# Altium footprint library gini_base_pcb.PCBLIB: 175 footprints (part 3 of 11)
Each footprint in its own frame and in the unit in brackets; x right, y up, seen from the top. Pads: shape width x height; smd on the part's side, far side on the other; paste and mask are expansions set on the pad; w line width, h text height; cw(c..) or ccw(c..) is an arc to the next point about the centre after c.
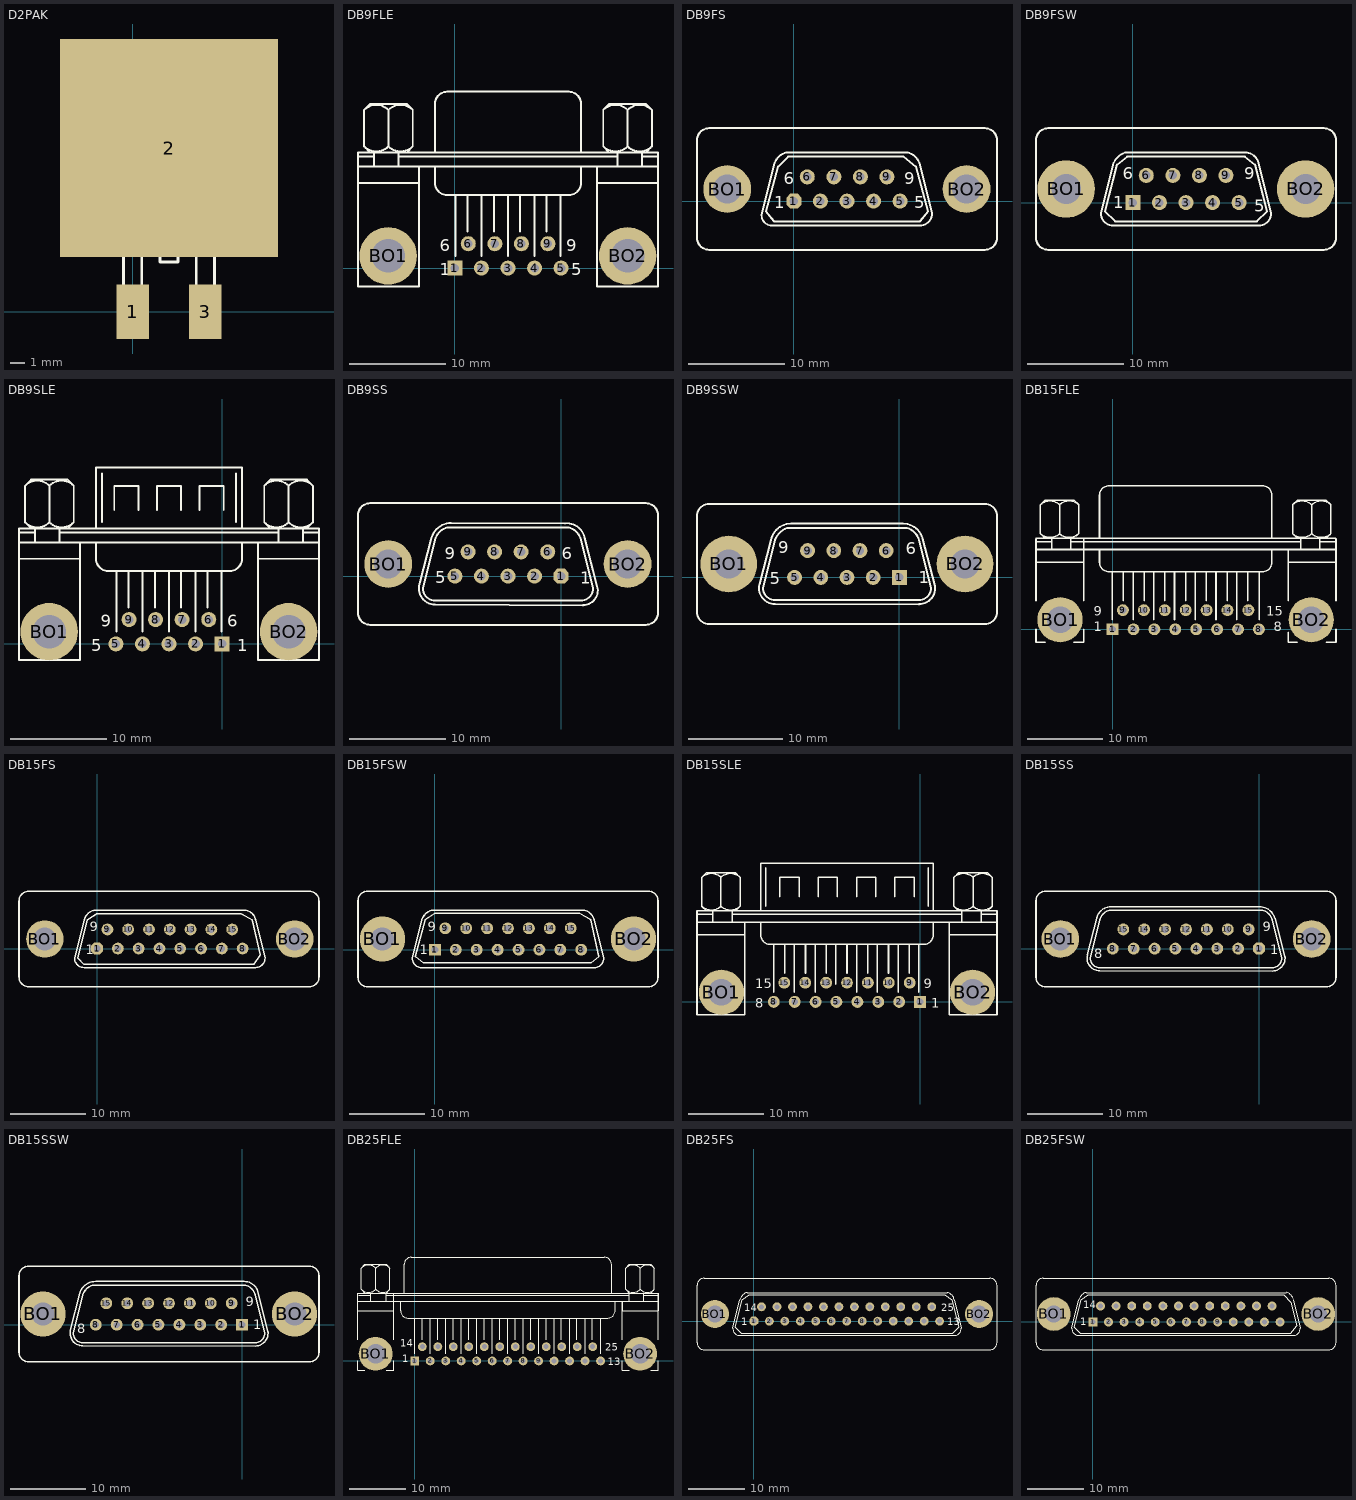
[diagram p2: the footprints below, top view; thin cyan lines are the x and y axes]

## D2PAK [mil]
pads (3):
  rect 90x150 smd: 1(0,0) 3(200,0)
  rect 600x600 smd: 2(100,450)
TopOverlay:
  lines w7.87: -25,207 -25,0 25,0 25,207 ; 75,207 75,137 125,137 125,207 ; 175,207 175,0 225,0 225,207 ; -108.33,207 -91.67,223.67 ; -108.33,207 -108.33,548.67 ; -108.33,207 308.33,207 ; -108.33,548.67 -91.67,532 ; -108.33,548.67 -108.33,598.67 -50,615.33 250,615.33 308.33,598.67 308.33,548.67 ; -108.33,548.67 308.33,548.67 ; -91.67,223.67 291.67,223.67 ; -91.67,223.67 -91.67,532 ; -91.67,532 291.67,532 ; 291.67,223.67 308.33,207 ; 291.67,223.67 291.67,532 ; 291.67,532 308.33,548.67 ; 308.33,207 308.33,548.67
  text "2" at 85,558 h50
  text "1" at -10.26,257.05 h50
  text "3" at 193.03,257.05 h50

## DB9FLE [mil]
pads (11):
  rect 62x62 hole 35: 1(0,0)
  round 62 hole 35: 2(109.17,0) 3(218.33,0) 4(327.5,0) 5(436.67,0) 6(55,100) 7(164.17,100) 8(273.33,100) 9(382.5,100)
  round 236.22 hole 137.8: BO1(-274.17,50) BO2(710,50)
TopOverlay:
  lines w8: -398.33,350 -148.33,350 ; -398.33,416.67 835,416.67 ; -398.33,458.33 -331.67,458.33 ; -373.42,499.91 ccw(c-323.33,550) -273.25,499.91 ; -373.42,650.09 cw(c-323.33,600) -273.25,650.09 ; -348.33,475 -373.33,500 -373.33,650 -348.33,675 -198.33,675 -173.33,650 -173.33,500 -198.33,475 ; -331.67,416.67 -331.67,475 ; -273.42,499.91 ccw(c-223.33,550) -173.25,499.91 ; -273.42,650.09 cw(c-223.33,600) -173.25,650.09 ; -273.33,500 -273.33,650 ; -231.67,416.67 -231.67,475 ; -231.67,458.33 668.33,458.33 ; -148.33,416.67 -148.33,-75 -398.33,-75 -398.33,475 835,475 835,-75 585,-75 585,416.67 ; -81.67,416.67 -81.67,350 ccw(c-31.67,350) -31.67,300 468.33,300 ccw(c468.33,350) 518.33,350 518.33,416.67 ; -81.67,475 -81.67,675 cw(c-31.67,675) -31.67,725 468.33,725 cw(c468.33,675) 518.33,675 518.33,475 ; 1.67,50 1.67,300 ; 51.67,150 51.67,300 ; 110,50 110,300 ; 160,150 160,300 ; 218.33,50 218.33,300 ; 268.33,150 268.33,300 ; 326.67,50 326.67,300 ; 376.67,150 376.67,300 ; 435,50 435,300 ; 585,350 835,350 ; 609.91,499.91 ccw(c660,550) 710.09,499.91 ; 609.91,650.09 cw(c660,600) 710.09,650.09 ; 635,475 610,500 610,650 635,675 785,675 810,650 810,500 785,475 ; 668.33,416.67 668.33,475 ; 709.91,499.91 ccw(c760,550) 810.09,499.91 ; 709.91,650.09 cw(c760,600) 810.09,650.09 ; 710,500 710,650 ; 768.33,416.67 768.33,475 ; 768.33,458.33 835,458.33
  text "6" at -61.67,70 h50
  text "1" at -61.67,-30 h50
  text "5" at 478.33,-30 h50
  text "9" at 458.33,70 h50

## DB9FS [mil]
pads (11):
  oct 62x62 hole 35: 1(0,0)
  round 62 hole 35: 2(109.17,0) 3(218.33,0) 4(327.5,0) 5(436.67,0) 6(55,100) 7(164.17,100) 8(273.33,100) 9(382.5,100)
  round 196.67 hole 118.33: BO1(-274.17,50) BO2(710,50)
TopOverlay:
  lines w8: -131.72,-50.22 ccw(c-90,-58.33) -81.89,-100.05 ; -131.67,-50 -81.67,150 ; -81.67,-100 518.33,-100 ccw(c518.33,-50) 568.33,-50 518.33,150 ; -81.3,149.86 cw(c-15,133.33) -31.53,199.64 ; -31.67,200 468.33,200 ; 468.2,199.64 cw(c451.67,133.33) 517.97,149.86 ; -398.33,-150 ccw(c-348.33,-150) -348.33,-200 785,-200 ccw(c785,-150) 835,-150 835,250 ccw(c785,250) 785,300 -348.33,300 ccw(c-348.33,250) -398.33,250 -398.33,-150 ; -115,-41.67 -65,141.67 -23.33,183.33 451.67,183.33 501.67,141.67 551.67,-41.67 518.33,-83.33 -81.67,-83.33 -115,-41.67
  text "1" at -81.67,-30 h50
  text "5" at 494.63,-29.7 h50
  text "6" at -41.67,70 h50
  text "9" at 454.03,70.2 h50

## DB9FSW [mil]
pads (11):
  rect 62x62 hole 35: 1(0,0)
  round 62 hole 35: 2(109.17,0) 3(218.33,0) 4(327.5,0) 5(436.67,0) 6(55,111.67) 7(164.17,111.67) 8(273.33,111.67) 9(382.5,111.67)
  round 236.22 hole 122.05: BO1(-274.17,55.83) BO2(710,55.83)
TopOverlay:
  lines w8: -398.33,255.83 cw(c-348.33,255.83) -348.33,305.83 785,305.83 cw(c785,255.83) 835,255.83 835,-144.17 cw(c785,-144.17) 785,-194.17 -348.33,-194.17 cw(c-348.33,-144.17) -398.33,-144.17 -398.33,264.17 ; -81.67,155.83 -131.67,-44.17 ccw(c-81.67,-44.17) -81.67,-94.17 518.33,-94.17 ccw(c518.33,-44.17) 568.33,-44.17 518.33,155.83 ; -78.99,163.03 cw(c-6.67,130.83) -31.13,206.12 ; -31.67,205.83 468.33,205.83 ; 468.23,206.09 cw(c460,147.5) 518.59,155.73 ; -115,-35.83 -73.33,-77.5 510,-77.5 551.67,-35.83 501.67,155.83 460,189.17 -23.33,189.17 -65,155.83 -115,-35.83
  text "9" at 458.33,95.83 h50
  text "5" at 499.33,-37.97 h50
  text "1" at -81.67,-24.17 h50
  text "6" at -41.67,95.83 h50

## DB9SLE [mil]
pads (11):
  rect 62x62 hole 35: 1(0,0)
  round 62 hole 35: 2(-109.17,0) 3(-218.33,0) 4(-327.5,0) 5(-436.67,0) 6(-55,100) 7(-164.17,100) 8(-273.33,100) 9(-382.5,100)
  round 236.22 hole 137.8: BO1(-710.83,50) BO2(273.33,50)
TopOverlay:
  lines w8: -835,350 -585,350 ; -835,416.67 398.33,416.67 ; -835,458.33 -768.33,458.33 ; -810.09,499.91 ccw(c-760,550) -709.91,499.91 ; -810.09,650.09 cw(c-760,600) -709.91,650.09 ; -785,475 -810,500 -810,650 -785,675 -635,675 -610,650 -610,500 -635,475 ; -768.33,416.67 -768.33,475 ; -710.09,499.91 ccw(c-660,550) -609.91,499.91 ; -710.09,650.09 cw(c-660,600) -609.91,650.09 ; -710,500 -710,650 ; -668.33,416.67 -668.33,475 ; -668.33,458.33 231.67,458.33 ; -585,416.67 -585,-66.67 -835,-66.67 -835,475 398.33,475 398.33,-66.67 148.33,-66.67 148.33,416.67 ; -518.33,416.67 -518.33,350 ccw(c-468.33,350) -468.33,300 31.67,300 ccw(c31.67,350) 81.67,350 81.67,416.67 ; -518.33,475 -518.33,725 81.67,725 81.67,475 ; -493.33,500 -493.33,700 ; -443.33,550 -443.33,650 -343.33,650 -343.33,550 ; -435,50 -435,300 ; -385,150 -385,300 ; -326.67,50 -326.67,300 ; -276.67,150 -276.67,300 ; -268.33,550 -268.33,650 -168.33,650 -168.33,550 ; -218.33,50 -218.33,300 ; -168.33,150 -168.33,300 ; -110,50 -110,300 ; -93.33,550 -93.33,650 6.67,650 6.67,550 ; -60,150 -60,300 ; -1.67,50 -1.67,300 ; 56.67,500 56.67,700 ; 148.33,350 398.33,350 ; 173.25,499.91 ccw(c223.33,550) 273.42,499.91 ; 173.25,650.09 cw(c223.33,600) 273.42,650.09 ; 198.33,475 173.33,500 173.33,650 198.33,675 348.33,675 373.33,650 373.33,500 348.33,475 ; 231.67,416.67 231.67,475 ; 273.25,499.91 ccw(c323.33,550) 373.42,499.91 ; 273.25,650.09 cw(c323.33,600) 373.42,650.09 ; 273.33,500 273.33,650 ; 331.67,416.67 331.67,475 ; 331.67,458.33 398.33,458.33
  text "1" at 61.67,-30 h50
  text "6" at 21.67,70 h50
  text "5" at -538.33,-30 h50
  text "9" at -498.33,70 h50

## DB9SS [mil]
pads (11):
  oct 62x62 hole 35: 1(0,0)
  round 62 hole 35: 2(-109.17,0) 3(-218.33,0) 4(-327.5,0) 5(-436.67,0) 6(-55,100) 7(-164.17,100) 8(-273.33,100) 9(-382.5,100)
  round 196.67 hole 118.33: BO1(-710.83,50) BO2(273.33,50)
TopOverlay:
  lines w8: -580,-23.33 -535,150 ; -579.7,-23.95 ccw(c-518.33,-50) -518.33,-116.67 90,-120 ; -535.1,149.55 cw(c-451.67,133.33) -451.67,218.33 15,216.67 ; -518.33,150 -568.33,-50 ccw(c-518.33,-50) -518.33,-100 81.67,-100 ccw(c81.67,-50) 131.67,-50 81.67,150 ; -517.97,149.86 cw(c-451.67,133.33) -468.2,199.64 ; -468.33,200 31.67,200 ; 15.41,217.08 cw(c23.33,141.67) 97.22,158.72 ; 31.53,199.64 cw(c15,133.33) 81.3,149.86 ; 90,-119.17 ccw(c90,-58.33) 148.48,-41.57 ; 96.67,158.33 148.33,-41.67 ; -835,-150 ccw(c-785,-150) -785,-200 348.33,-200 ccw(c348.33,-150) 398.33,-150 398.33,250 ccw(c348.33,250) 348.33,300 -785,300 ccw(c-785,250) -835,250 -835,-150
  text "6" at 1.67,70 h50
  text "1" at 78.27,-31.3 h50
  text "5" at -518.33,-30 h50
  text "9" at -478.33,70 h50

## DB9SSW [mil]
pads (11):
  rect 62x62 hole 35: 1(0,0)
  round 62 hole 35: 2(-109.17,0) 3(-218.33,0) 4(-327.5,0) 5(-436.67,0) 6(-55,111.67) 7(-164.17,111.67) 8(-273.33,111.67) 9(-382.5,111.67)
  round 236.22 hole 122.05: BO1(-710.83,55.83) BO2(273.33,55.83)
TopOverlay:
  lines w8: -583.33,-29.17 -535,155.83 ; -583.02,-28.04 ccw(c-518.33,-44.17) -518.33,-110.83 81.67,-112.5 ; -535.1,155.38 cw(c-451.67,139.17) -451.67,224.17 15,224.17 cw(c15,139.17) 96.29,164.02 ; -518.45,156.21 cw(c-435,122.5) -468.71,205.95 ; -518.33,155.83 -568.33,-44.17 ccw(c-518.33,-44.17) -518.33,-94.17 81.67,-94.17 ccw(c81.67,-44.17) 131.67,-44.17 81.67,155.83 ; -468.33,205.83 31.67,205.83 ; 31.53,205.47 cw(c15,139.17) 81.3,155.7 ; 81.67,-111.67 ccw(c81.67,-44.17) 148.66,-35.94 ; 96.67,162.5 148.33,-35.83 ; -843.33,-144.17 ccw(c-793.33,-144.17) -793.33,-194.17 356.67,-194.17 ccw(c356.67,-144.17) 406.67,-144.17 406.67,255.83 ccw(c356.67,255.83) 356.67,305.83 -793.33,305.83 ccw(c-793.33,255.83) -843.33,255.83 -843.33,-144.17
  text "6" at 27.27,95.73 h50
  text "1" at 81.07,-24.47 h50
  text "5" at -540.83,-29.27 h50
  text "9" at -504.43,100.53 h50

## DB15FLE [mil]
pads (17):
  rect 62x62 hole 35: 1(0,0)
  round 62 hole 35: 2(109.17,0) 3(218.33,0) 4(327.5,0) 5(436.67,0) 6(545.83,0) 7(655,0) 8(764.17,0) 9(54.17,100) 10(163.33,100) 11(272.5,100) 12(381.67,100) 13(490.83,100) 14(600,100) 15(709.17,100)
  round 236.22 hole 137.8: BO1(-274.17,50) BO2(1037.5,50)
TopOverlay:
  lines w7.99: -400,0 -400,-66.67 -351.67,-66.67 ; -400,150 -400,350 -400,473.33 ; -201.67,-66.67 -150,-66.67 -150,0 ; -150,150 -150,350 -150,474 ; 916.66,-16 916.66,-66.67 965,-66.67 ; 916.66,150 916.66,350 916.66,416 ; 1115,-66.67 1166.66,-66.67 1166.66,0 ; 1166.66,150 1166.66,350 1166.66,473.33
  lines w8: -400,350 -150,350 ; -400,458.33 -318.33,458.33 ; -400,473.33 -398.33,475 1165,475 ; -399,416.67 1165,416.67 ; -376.75,499.91 ccw(c-326.67,550) -276.58,499.91 ; -376.75,650.09 cw(c-326.67,600) -276.58,650.09 ; -351.67,475 -376.67,500 -376.67,650 -351.67,675 -201.67,675 -176.67,650 -176.67,500 -201.67,483.33 ; -318.33,416.67 -318.33,475 ; -276.75,499.91 ccw(c-226.67,550) -176.58,499.91 ; -276.75,650.09 cw(c-226.67,600) -176.58,650.09 ; -276.67,500 -276.67,650 ; -218.33,416.67 -218.33,475 ; -218.33,458.33 981.67,458.33 ; -68.33,416.67 -68.33,350 ccw(c-18.33,350) -18.33,300 781.67,300 ccw(c781.67,350) 831.67,350 831.67,416.67 ; -68.33,475 -68.33,700 cw(c-18.33,700) -18.33,750 781.67,750 cw(c781.67,700) 831.67,700 831.67,475 ; -1.67,50 -1.67,300 ; 56.67,150 56.67,300 ; 106.67,50 106.67,300 ; 165,150 165,300 ; 215,50 215,300 ; 273.33,150 273.33,300 ; 323.33,50 323.33,300 ; 381.67,150 381.67,300 ; 431.67,50 431.67,300 ; 490,150 490,300 ; 540,50 540,300 ; 598.33,150 598.33,300 ; 648.33,50 648.33,300 ; 706.67,150 706.67,300 ; 765,50 765,300 ; 916.66,350 1165,350 ; 939.91,499.91 ccw(c990,550) 1040.09,499.91 ; 939.91,650.09 cw(c990,600) 1040.09,650.09 ; 965,475 940,500 940,650 965,675 1115,675 1140,650 1140,500 1115,475 ; 981.67,416.67 981.67,475 ; 1039.91,499.91 ccw(c1090,550) 1140.09,499.91 ; 1039.91,650.09 cw(c1090,600) 1140.09,650.09 ; 1040,500 1040,650 ; 1081.67,416.67 1081.67,475 ; 1081.67,458.33 1165,458.33
  text "1" at -98.33,-10 h50
  text "9" at -98.33,70 h50
  text "15" at 801.67,70 h50
  text "8" at 841.67,-10 h50

## DB15FS [mil]
pads (17):
  oct 62x62 hole 35: 1(0,0)
  round 62 hole 35: 2(109.17,0) 3(218.33,0) 4(327.5,0) 5(436.67,0) 6(545.83,0) 7(655,0) 8(764.17,0) 9(54.17,100) 10(163.33,100) 11(272.5,100) 12(381.67,100) 13(490.83,100) 14(600,100) 15(709.17,100)
  round 196.67 hole 118.33: BO1(-274.17,50) BO2(1037.5,50)
TopOverlay:
  lines w8: -68.33,150 -118.33,-50 ccw(c-68.33,-50) -68.33,-100 831.67,-100 ccw(c831.67,-50) 881.67,-50 831.67,150 ; -67.97,149.86 cw(c-1.67,133.33) -18.2,199.64 ; -18.33,200 781.67,200 ; 781.57,200.26 cw(c773.33,141.67) 831.92,149.9 ; -410,-150 ccw(c-360,-150) -360,-200 1115,-200 ccw(c1115,-150) 1165,-150 1165,250 ccw(c1115,250) 1115,300 -360,300 ccw(c-360,250) -410,250 -410,-150 ; -101.67,-50 -68.33,-83.33 823.33,-83.33 856.67,-33.33 815,150 756.67,183.33 -1.67,183.33 -51.67,150 -101.67,-50
  text "1" at -58.33,-30 h50
  text "9" at -38.33,90 h50

## DB15FSW [mil]
pads (17):
  rect 62x62 hole 35: 1(0,0)
  round 62 hole 35: 2(109.17,0) 3(218.33,0) 4(327.5,0) 5(436.67,0) 6(545.83,0) 7(655,0) 8(764.17,0) 9(54.17,111.67) 10(163.33,111.67) 11(272.5,111.67) 12(381.67,111.67) 13(490.83,111.67) 14(600,111.67) 15(709.17,111.67)
  round 236.22 hole 122.05: BO1(-274.17,55.83) BO2(1037.5,55.83)
TopOverlay:
  lines w8: -68.63,155.3 cw(c6.67,130.83) -17.8,206.12 ; -68.33,155.83 -118.33,-44.17 ccw(c-68.33,-44.17) -68.33,-94.17 831.67,-94.17 ccw(c831.67,-44.17) 881.67,-44.17 831.67,155.83 ; -18.33,205.83 781.67,205.83 ; 781.53,205.47 cw(c765,139.17) 831.3,155.7 ; -401.67,-144.17 ccw(c-351.67,-144.17) -351.67,-194.17 1115,-194.17 ccw(c1115,-144.17) 1165,-144.17 1165,255.83 ccw(c1115,255.83) 1115,305.83 -351.67,305.83 ccw(c-351.67,255.83) -401.67,255.83 -401.67,-144.17 ; -101.67,-35.83 -60,-69.17 815,-69.17 856.67,-35.83 815,155.83 756.67,189.17 -1.67,189.17 -51.67,155.83 -101.67,-35.83
  text "9" at -38.33,95.83 h50
  text "1" at -78.33,-24.17 h50

## DB15SLE [mil]
pads (17):
  rect 62x62 hole 35: 1(0,0)
  round 62 hole 35: 2(-109.17,0) 3(-218.33,0) 4(-327.5,0) 5(-436.67,0) 6(-545.83,0) 7(-655,0) 8(-764.17,0) 9(-54.17,100) 10(-163.33,100) 11(-272.5,100) 12(-381.67,100) 13(-490.83,100) 14(-600,100) 15(-709.17,100)
  round 236.22 hole 137.8: BO1(-1037.5,50) BO2(274.17,50)
TopOverlay:
  lines w8: -1165,350 -915,350 ; -1165,416.67 401.67,416.67 ; -1165,458.33 -1081.67,458.33 ; -1140.09,499.91 ccw(c-1090,550) -1039.91,499.91 ; -1140.09,650.09 cw(c-1090,600) -1039.91,650.09 ; -1115,475 -1140,500 -1140,650 -1115,675 -965,675 -940,650 -940,500 -965,475 ; -1081.67,416.67 -1081.67,475 ; -1040.09,499.91 ccw(c-990,550) -939.91,499.91 ; -1040.09,650.09 cw(c-990,600) -939.91,650.09 ; -1040,500 -1040,650 ; -981.67,416.67 -981.67,475 ; -981.67,458.33 218.33,458.33 ; -915,416.67 -915,-66.67 -1165,-66.67 -1165,475 401.67,475 401.67,-66.67 151.67,-66.67 151.67,416.67 ; -831.67,416.67 -831.67,350 ccw(c-781.67,350) -781.67,300 18.33,300 ccw(c18.33,350) 68.33,350 68.33,416.67 ; -831.67,475 -831.67,725 68.33,725 68.33,475 ; -806.67,500 -806.67,700 ; -765,50 -765,300 ; -731.67,550 -731.67,650 -631.67,650 -631.67,550 ; -706.67,150 -706.67,300 ; -656.67,50 -656.67,300 ; -598.33,150 -598.33,300 ; -548.33,50 -548.33,300 ; -531.67,550 -531.67,650 -431.67,650 -431.67,550 ; -490,150 -490,300 ; -440,91.67 -440,300 ; -381.67,150 -381.67,300 ; -331.67,50 -331.67,300 ; -331.67,550 -331.67,650 -231.67,650 -231.67,550 ; -273.33,150 -273.33,300 ; -223.33,50 -223.33,300 ; -165,150 -165,300 ; -131.67,550 -131.67,650 -31.67,650 -31.67,550 ; -115,50 -115,300 ; -56.67,150 -56.67,300 ; -6.67,50 -6.67,300 ; 43.33,500 43.33,700 ; 151.67,350 401.67,350 ; 176.58,499.91 ccw(c226.67,550) 276.75,499.91 ; 176.58,650.09 cw(c226.67,600) 276.75,650.09 ; 201.67,475 176.67,500 176.67,650 201.67,675 351.67,675 376.67,650 376.67,500 351.67,475 ; 218.33,416.67 218.33,475 ; 276.58,499.91 ccw(c326.67,550) 376.75,499.91 ; 276.58,650.09 cw(c326.67,600) 376.75,650.09 ; 276.67,500 276.67,650 ; 318.33,416.67 318.33,475 ; 318.33,458.33 326.67,458.33 401.67,458.33
  text "9" at 18.33,70 h50
  text "1" at 58.33,-30 h50
  text "8" at -861.67,-30 h50
  text "15" at -861.67,70 h50

## DB15SS [mil]
pads (17):
  oct 62x62 hole 35: 1(0,0)
  round 62 hole 35: 2(-109.17,0) 3(-218.33,0) 4(-327.5,0) 5(-436.67,0) 6(-545.83,0) 7(-655,0) 8(-764.17,0) 9(-54.17,100) 10(-163.33,100) 11(-272.5,100) 12(-381.67,100) 13(-490.83,100) 14(-600,100) 15(-709.17,100)
  round 196.67 hole 118.33: BO1(-1037.5,50) BO2(274.17,50)
TopOverlay:
  lines w8: -896.67,-31.67 -848.33,158.33 ; -895.75,-31.62 ccw(c-831.67,-50) -831.67,-116.67 68.33,-118.33 ; -848.03,158.91 cw(c-773.33,141.67) -773.33,218.33 1.67,218.33 cw(c1.67,133.33) 82.95,158.18 ; -831.67,150 -881.67,-50 ccw(c-831.67,-50) -831.67,-100 68.33,-100 ccw(c68.33,-50) 118.33,-50 68.33,150 ; -831.3,149.86 cw(c-765,133.33) -781.53,199.64 ; -781.67,200 18.33,200 ; 18.2,199.64 cw(c1.67,133.33) 67.97,149.86 ; 68.33,-117.5 ccw(c68.33,-50) 135.33,-41.77 ; 83.33,156.67 135,-41.67 ; -1165,-150 ccw(c-1115,-150) -1115,-200 351.67,-200 ccw(c351.67,-150) 401.67,-150 401.67,250 ccw(c351.67,250) 351.67,300 -1115,300 ccw(c-1115,250) -1165,250 -1165,-150
  text "8" at -861.67,-50 h50
  text "1" at 58.33,-30 h50
  text "9" at 18.33,90 h50

## DB15SSW [mil]
pads (17):
  rect 62x62 hole 35: 1(0,0)
  round 62 hole 35: 2(-109.17,0) 3(-218.33,0) 4(-327.5,0) 5(-436.67,0) 6(-545.83,0) 7(-655,0) 8(-764.17,0) 9(-54.17,111.67) 10(-163.33,111.67) 11(-272.5,111.67) 12(-381.67,111.67) 13(-490.83,111.67) 14(-600,111.67) 15(-709.17,111.67)
  round 236.22 hole 122.05: BO1(-1040,55.83) BO2(274.17,55.83)
TopOverlay:
  lines w8: -896.67,-29.17 -848.33,164.17 ; -896.35,-28.04 ccw(c-831.67,-44.17) -831.67,-110.83 68.33,-112.5 ; -847.88,164.5 cw(c-765,139.17) -765,225.83 10,225.83 cw(c10,147.5) 79.8,183.06 ; -831.96,155.3 cw(c-756.67,130.83) -781.13,206.12 ; -831.67,155.83 -881.67,-44.17 ccw(c-831.67,-44.17) -831.67,-94.17 68.33,-94.17 ccw(c68.33,-44.17) 118.33,-44.17 68.33,155.83 ; -781.67,205.83 18.33,205.83 ; 18.2,205.47 cw(c1.67,139.17) 67.97,155.7 ; 68.33,-111.67 ccw(c68.33,-44.17) 135.33,-35.94 ; 80,182.5 135,-35.83 ; -1165,-144.17 ccw(c-1115,-144.17) -1115,-194.17 351.67,-194.17 ccw(c351.67,-144.17) 401.67,-144.17 401.67,255.83 ccw(c351.67,255.83) 351.67,305.83 -1115,305.83 ccw(c-1115,255.83) -1165,255.83 -1165,-144.17
  text "9" at 18.33,95.83 h50
  text "1" at 58.33,-24.17 h50
  text "8" at -861.67,-44.17 h50

## DB25FLE [mil]
pads (27):
  rect 62x62 hole 35: 1(0,0)
  round 62 hole 35: 2(108.33,0) 3(216.67,0) 4(325,0) 5(433.33,0) 6(541.67,0) 7(650,0) 8(758.33,0) 9(866.67,0) 10(975,0) 11(1083.33,0) 12(1191.67,0) 13(1300,0) 14(53.33,100) 15(161.67,100) 16(270,100) 17(378.33,100) 18(486.67,100) 19(595,100) 20(703.33,100) 21(811.67,100) 22(920,100) 23(1028.33,100) 24(1136.67,100) 25(1245,100)
  round 236.22 hole 137.8: BO1(-273.33,50) BO2(1576.67,50)
TopOverlay:
  lines w7.99: -396.67,0 -396.67,-66.67 -348.33,-66.67 ; -396.67,150 -396.67,350 -396.67,475 ; -198.33,-66.67 -146.67,-66.67 -146.67,0 ; -146.67,150 -146.67,350 -146.67,471.67 ; 1451.67,0 1451.67,-66.67 1500,-66.67 ; 1451.67,150 1451.67,350 ; 1650,-66.67 1701.67,-66.67 1701.67,0 ; 1701.67,150 1701.67,350
  lines w8: -396.67,350 -148.33,350 ; -396.67,475 1701.67,475 ; -395,416.67 1701.67,416.67 ; -391.67,458.33 -306.67,458.33 ; -373.42,499.91 ccw(c-323.33,550) -273.25,499.91 ; -373.42,650.09 cw(c-323.33,600) -273.25,650.09 ; -348.33,475 -373.33,500 -373.33,650 -348.33,675 -198.33,675 -173.33,650 -173.33,500 -198.33,475 -198.33,416.67 ; -306.67,416.67 -306.67,475 ; -273.42,499.91 ccw(c-223.33,550) -173.25,499.91 ; -273.42,650.09 cw(c-223.33,600) -173.25,650.09 ; -273.33,500 -273.33,650 ; -198.33,458.33 1501.67,458.33 ; -98.33,416.67 -98.33,350 ccw(c-48.33,350) -48.33,300 1351.67,300 ccw(c1351.67,350) 1401.67,350 1401.67,416.67 ; -73.33,475 -73.33,675 cw(c-23.33,675) -23.33,725 1326.67,725 cw(c1326.67,675) 1376.67,675 1376.67,475 ; 1.67,50 1.67,300 ; 51.67,150 51.67,300 ; 110,50 110,300 ; 160,150 160,300 ; 218.33,50 218.33,300 ; 268.33,150 268.33,300 ; 326.67,50 326.67,300 ; 376.67,150 376.67,300 ; 435,50 435,300 ; 485,150 485,300 ; 543.33,50 543.33,300 ; 593.33,150 593.33,300 ; 651.67,50 651.67,300 ; 701.67,150 701.67,300 ; 760,50 760,300 ; 810,150 810,300 ; 868.33,50 868.33,300 ; 918.33,150 918.33,300 ; 976.67,50 976.67,300 ; 1026.67,150 1026.67,300 ; 1085,50 1085,300 ; 1135,150 1135,300 ; 1193.33,50 1193.33,300 ; 1243.33,150 1243.33,300 ; 1301.67,50 1301.67,300 ; 1451.67,350 1701.67,350 ; 1476.58,499.91 ccw(c1526.67,550) 1576.75,499.91 ; 1476.58,650.09 cw(c1526.67,600) 1576.75,650.09 ; 1501.67,416.67 1501.67,475 1476.67,500 1476.67,650 1501.67,675 1651.67,675 1676.67,650 1676.67,500 1651.67,475 ; 1576.58,499.91 ccw(c1626.67,550) 1676.75,499.91 ; 1576.58,650.09 cw(c1626.67,600) 1676.75,650.09 ; 1576.67,500 1576.67,650 ; 1601.67,416.67 1601.67,475 ; 1601.67,458.33 1701.67,458.33
  lines w10: 1451.67,350 1451.67,415 ; 1701.67,350 1701.67,475
  text "25" at 1331.67,70 h50
  text "13" at 1351.67,-30 h50
  text "1" at -88.33,-10 h50
  text "14" at -100,100 h50

## DB25FS [mil]
pads (27):
  oct 62x62 hole 35: 1(0,0)
  round 62 hole 35: 2(108.33,0) 3(216.67,0) 4(325,0) 5(433.33,0) 6(541.67,0) 7(650,0) 8(758.33,0) 9(866.67,0) 10(975,0) 11(1083.33,0) 12(1191.67,0) 13(1300,0) 14(53.33,100) 15(161.67,100) 16(270,100) 17(378.33,100) 18(486.67,100) 19(595,100) 20(703.33,100) 21(811.67,100) 22(920,100) 23(1028.33,100) 24(1136.67,100) 25(1245,100)
  round 196.67 hole 118.33: BO1(-273.33,50) BO2(1576.67,50)
TopOverlay:
  lines w8: -98.33,150 -148.33,-50 ccw(c-98.33,-50) -98.33,-100 1401.67,-100 ccw(c1401.67,-50) 1451.67,-50 1401.67,150 ; -97.97,149.86 cw(c-31.67,133.33) -48.2,199.64 ; -48.33,200 1351.67,200 ; 1352.59,200.1 cw(c1343.33,141.67) 1401.92,149.9 ; -398.33,-150 ccw(c-348.33,-150) -348.33,-200 1651.67,-200 ccw(c1651.67,-150) 1701.67,-150 1701.67,250 ccw(c1651.67,250) 1651.67,300 -348.33,300 ccw(c-348.33,250) -398.33,250 -398.33,-150 ; -131.67,-41.67 -90,-83.33 1393.33,-83.33 1435,-41.67 1385,150 1335,183.33 -31.67,183.33 -81.67,150 -131.67,-41.67
  text "14" at -68.33,70 h50
  text "1" at -88.33,-30 h50
  text "13" at 1351.67,-30 h50
  text "25" at 1311.67,70 h50

## DB25FSW [mil]
pads (27):
  rect 62x62 hole 35: 1(0,0)
  round 62 hole 35: 2(109.17,0) 3(218.33,0) 4(327.5,0) 5(436.67,0) 6(545.83,0) 7(655,0) 8(764.17,0) 9(873.33,0) 10(982.5,0) 11(1091.67,0) 12(1200.83,0) 13(1310,0) 14(53.33,111.67) 15(162.5,111.67) 16(271.67,111.67) 17(380.83,111.67) 18(490,111.67) 19(599.17,111.67) 20(708.33,111.67) 21(817.5,111.67) 22(926.67,111.67) 23(1035.83,111.67) 24(1145,111.67) 25(1254.17,111.67)
  round 236.22 hole 122.05: BO1(-273.33,55.83) BO2(1576.67,55.83)
TopOverlay:
  lines w8: -98.33,-94.17 1401.67,-94.17 ccw(c1401.67,-44.17) 1451.67,-44.17 1401.67,155.83 ; -98.33,155.83 -148.33,-44.17 ccw(c-98.33,-44.17) -90.51,-93.55 ; -97.97,155.7 cw(c-31.67,139.17) -48.2,205.47 ; -48.33,205.83 1351.67,205.83 ; 1354.52,207.26 cw(c1335,139.17) 1401.13,164.55 ; -398.33,-144.17 ccw(c-348.33,-144.17) -348.33,-194.17 1651.67,-194.17 ccw(c1651.67,-144.17) 1701.67,-144.17 1701.67,255.83 ccw(c1651.67,255.83) 1651.67,305.83 -348.33,305.83 ccw(c-348.33,255.83) -398.33,255.83 -398.33,-144.17 ; -131.67,-35.83 -90,-77.5 1385,-77.5 1426.67,-27.5 1385,139.17 1335,189.17 -31.67,189.17 -81.67,155.83 -131.67,-35.83
  text "1" at -88.33,-24.17 h50
  text "14" at -68.33,95.83 h50